# EAGLE library part CH32V307VCT6_LCSC (library lcsc_parts)
Description: RISC-V4F 32 Bit 144MHz 80 LQFP-100(14x14) Microcontrollers RoHS Manufacturer: WCH MPN: CH32V307VCT6 LCSC Part: C2943979 Category: Microcontrollers Datasheet: https://datasheet.lcsc.com/datasheet/pdf/3feba115063060d9c6ef679ef3dd19d6.pdf?productCode=C2943979
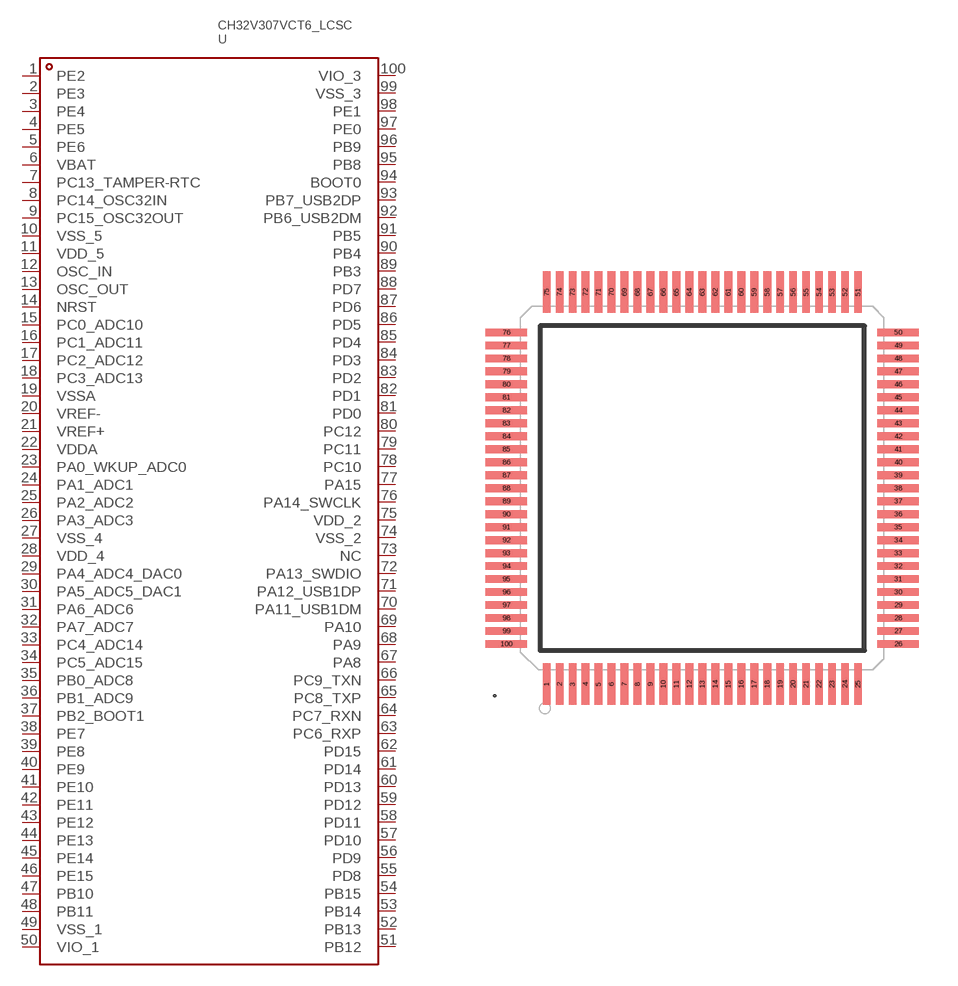
[diagram p16: symbol with the pads of LQFP-100_L14.0-W14.0-P0.50-LS16.0-BL; footprint LQFP-100_L14.0-W14.0-P0.50-LS16.0-BL]

Designator prefix U

## CH32V307VCT6_LCSC (ADC_BIT: 12bit; CATEGORY: Microcontrollers; CORE_SIZE: 32 Bit; CPU_CORE: RISC-V4F; CPU_MAXIMUM_SPEED: 144MHz; DAC_BIT: 12bit; DATASHEET: https://datasheet.lcsc.com/datasheet/pdf/3feba115063060d9c6ef679ef3dd19d6.pdf?productCode=C2943979; DESCRIPTION: RISC-V4F 32 Bit 144MHz 80 LQFP-100(14x14) Microcontrollers RoHS; LCSC_PART: C2943979; LCSC_STOCK: 1463; MANUFACTURER: WCH; MPN: CH32V307VCT6; NUMBER_OF_I_O: 80; OPERATING_TEMPERATURE: -40℃~+85℃; OSCILLATOR_TYPE: Built-in+External; PARTNO: CH32V307VCT6; PRICING_1000: $2.1923/unit @ 1000; PRICING_50: $2.6565/unit @ 50; PROGRAM_MEMORY_TYPE: FLASH; PROGRAM_STORAGE_SIZE: 256KB; VOLTAGE_SUPPLY: 3.3V)  [LQFP-100_L14.0-W14.0-P0.50-LS16.0-BL]
1  PE2
2  PE3
3  PE4
4  PE5
5  PE6
6  VBAT
7  PC13_TAMPER-RTC
8  PC14_OSC32IN
9  PC15_OSC32OUT
10  VSS_5
11  VDD_5
12  OSC_IN
13  OSC_OUT
14  NRST
15  PC0_ADC10
16  PC1_ADC11
17  PC2_ADC12
18  PC3_ADC13
19  VSSA
20  VREF-
21  VREF+
22  VDDA
23  PA0_WKUP_ADC0
24  PA1_ADC1
25  PA2_ADC2
26  PA3_ADC3
27  VSS_4
28  VDD_4
29  PA4_ADC4_DAC0
30  PA5_ADC5_DAC1
31  PA6_ADC6
32  PA7_ADC7
33  PC4_ADC14
34  PC5_ADC15
35  PB0_ADC8
36  PB1_ADC9
37  PB2_BOOT1
38  PE7
39  PE8
40  PE9
41  PE10
42  PE11
43  PE12
44  PE13
45  PE14
46  PE15
47  PB10
48  PB11
49  VSS_1
50  VIO_1
51  PB12
52  PB13
53  PB14
54  PB15
55  PD8
56  PD9
57  PD10
58  PD11
59  PD12
60  PD13
61  PD14
62  PD15
63  PC6_RXP
64  PC7_RXN
65  PC8_TXP
66  PC9_TXN
67  PA8
68  PA9
69  PA10
70  PA11_USB1DM
71  PA12_USB1DP
72  PA13_SWDIO
73  NC
74  VSS_2
75  VDD_2
76  PA14_SWCLK
77  PA15
78  PC10
79  PC11
80  PC12
81  PD0
82  PD1
83  PD2
84  PD3
85  PD4
86  PD5
87  PD6
88  PD7
89  PB3
90  PB4
91  PB5
92  PB6_USB2DM
93  PB7_USB2DP
94  BOOT0
95  PB8
96  PB9
97  PE0
98  PE1
99  VSS_3
100  VIO_3

## Footprint LQFP-100_L14.0-W14.0-P0.50-LS16.0-BL (pad centres in mm)
smd 0.3 x 1.6: 1 -6,-7.55; 2 -5.5,-7.55; 3 -5,-7.55; 4 -4.5,-7.55; 5 -4,-7.55; 6 -3.5,-7.55; 7 -3,-7.55; 8 -2.5,-7.55; 9 -2,-7.55; 10 -1.5,-7.55; 11 -1,-7.55; 12 -0.5,-7.55; 13 0,-7.55; 14 0.5,-7.55; 15 1,-7.55; 16 1.5,-7.55; 17 2,-7.55; 18 2.5,-7.55; 19 3,-7.55; 20 3.5,-7.55; 21 4,-7.55; 22 4.5,-7.55; 23 5,-7.55; 24 5.5,-7.55; 25 6,-7.55; 51 6,7.55; 52 5.5,7.55; 53 5,7.55; 54 4.5,7.55; 55 4,7.55; 56 3.5,7.55; 57 3,7.55; 58 2.5,7.55; 59 2,7.55; 60 1.5,7.55; 61 1,7.55; 62 0.5,7.55; 63 0,7.55; 64 -0.5,7.55; 65 -1,7.55; 66 -1.5,7.55; 67 -2,7.55; 68 -2.5,7.55; 69 -3,7.55; 70 -3.5,7.55; 71 -4,7.55; 72 -4.5,7.55; 73 -5,7.55; 74 -5.5,7.55; 75 -6,7.55
smd 1.6 x 0.3: 26 7.55,-6; 27 7.55,-5.5; 28 7.55,-5; 29 7.55,-4.5; 30 7.55,-4; 31 7.55,-3.5; 32 7.55,-3; 33 7.55,-2.5; 34 7.55,-2; 35 7.55,-1.5; 36 7.55,-1; 37 7.55,-0.5; 38 7.55,0; 39 7.55,0.5; 40 7.55,1; 41 7.55,1.5; 42 7.55,2; 43 7.55,2.5; 44 7.55,3; 45 7.55,3.5; 46 7.55,4; 47 7.55,4.5; 48 7.55,5; 49 7.55,5.5; 50 7.55,6; 76 -7.55,6; 77 -7.55,5.5; 78 -7.55,5; 79 -7.55,4.5; 80 -7.55,4; 81 -7.55,3.5; 82 -7.55,3; 83 -7.55,2.5; 84 -7.55,2; 85 -7.55,1.5; 86 -7.55,1; 87 -7.55,0.5; 88 -7.55,0; 89 -7.55,-0.5; 90 -7.55,-1; 91 -7.55,-1.5; 92 -7.55,-2; 93 -7.55,-2.5; 94 -7.55,-3; 95 -7.55,-3.5; 96 -7.55,-4; 97 -7.55,-4.5; 98 -7.55,-5; 99 -7.55,-5.5; 100 -7.55,-6